# Altium footprint library SMD_5x5mm.PcbLib: 1 footprints
Each footprint in its own frame and in the unit in brackets; x right, y up, seen from the top. Pads: shape width x height; smd on the part's side, far side on the other; paste and mask are expansions set on the pad; w line width, h text height; cw(c..) or ccw(c..) is an arc to the next point about the centre after c.
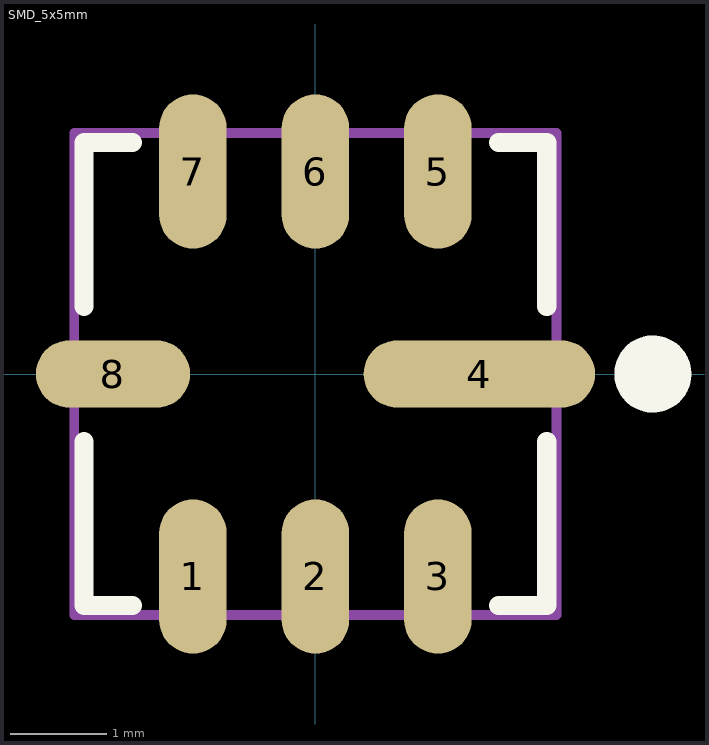
[diagram p0: the footprint, top view; thin cyan lines are the x and y axes]

## SMD_5x5mm [mm]
pads (8):
  oval 0.7x1.6 smd mask+0.051: 1(-1.27,-2.1) 2(0,-2.1) 3(1.27,-2.1) 5(1.27,2.1) 6(0,2.1) 7(-1.27,2.1)
  oval 2.4x0.7 smd mask+0.051: 4(1.7,0)
  oval 1.6x0.7 smd mask+0.051: 8(-2.1,0)
Top Overlay:
  circle w0.4: c3.5,0 r0.2
  lines w0.2: -2.4,-0.7 -2.4,-2.4 -1.9,-2.4 ; -2.4,0.7 -2.4,2.4 -1.9,2.4 ; 1.9,-2.4 2.4,-2.4 2.4,-0.7 ; 1.9,2.4 2.4,2.4 2.4,0.7
Mechanical 13:
  lines w0.1: -2.5,-2.5 2.5,-2.5 2.5,2.5 -2.5,2.5 -2.5,-2.5